# Altium schematic symbol library SchottkyDiodes.SchLib: 2 symbols
Pins are listed as number, name and electrical type; pins without a type are passive.

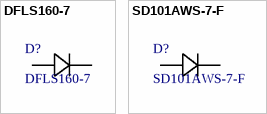
[diagram p0: symbols DFLS160-7 to SD101AWS-7-F]

## DFLS160-7
designator D?
DIODE SCHOTTKY 60V 1A POWERDI123; Manufacturer 1: Diodes Inc; Manufacturer Part Number 1: DFLS160-7
footprint SODFL370X100-2L (SODFL, 2-Leads, Body 1.78x3.70mm, IPC High Density)
pins: 1, 2

## SD101AWS-7-F
designator D?
DIODE SCHOTTKY 60V 15MA SOD323; Manufacturer 1: Diodes Inc; Manufacturer Part Number 1: SD101AWS-7-F
footprint SOD323
pins: 1, 2